# EAGLE library part TSW-S-10_S (library con-samtec-tsw)
HEADER
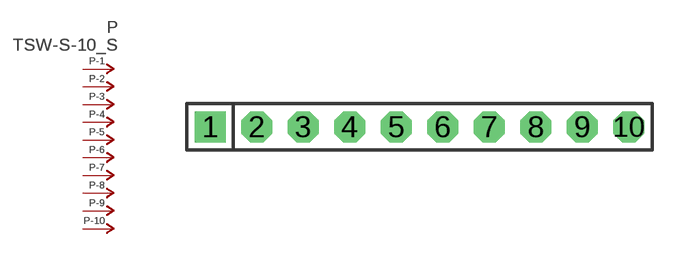
[diagram p49: symbol with the pads of TSW-S-10; footprint TSW-S-10]

Designator prefix P; gates -1=P-NV -2=P-N -3=P-N -4=P-N -5=P-N -6=P-N -7=P-N -8=P-N -9=P-N -10=P-N

## TSW-S-10_S  [TSW-S-10]
1  -1:P  pas
2  -2:P  pas
3  -3:P  pas
4  -4:P  pas
5  -5:P  pas
6  -6:P  pas
7  -7:P  pas
8  -8:P  pas
9  -9:P  pas
10  -10:P  pas

## Footprint TSW-S-10 (pad centres in mm)
HEADER
drill 0.914 pad 1.676 square: 1 -11.43,0
drill 0.914 pad 1.676 octagon: 2 -8.89,0; 3 -6.35,0; 4 -3.81,0; 5 -1.27,0; 6 1.27,0; 7 3.81,0; 8 6.35,0; 9 8.89,0; 10 11.43,0